# Altium schematic symbol library SCH - POWER - LINEAR VREG - TI LP38852T-ADJ.SchLib: 1 symbol
Pins are listed as number, name and electrical type; pins without a type are passive.

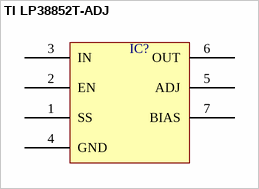
[diagram p0: symbol TI LP38852T-ADJ]

## TI LP38852T-ADJ
designator IC?  (value not drawn)
pins: 1 SS, 2 EN, 3 IN, 4 GND, 5 ADJ, 6 OUT, 7 BIAS